# Altium footprint library TPS84250RKGR.PcbLib: 1 footprints
Each footprint in its own frame and in the unit in brackets; x right, y up, seen from the top. Pads: shape width x height; smd on the part's side, far side on the other; paste and mask are expansions set on the pad; w line width, h text height; cw(c..) or ccw(c..) is an arc to the next point about the centre after c.
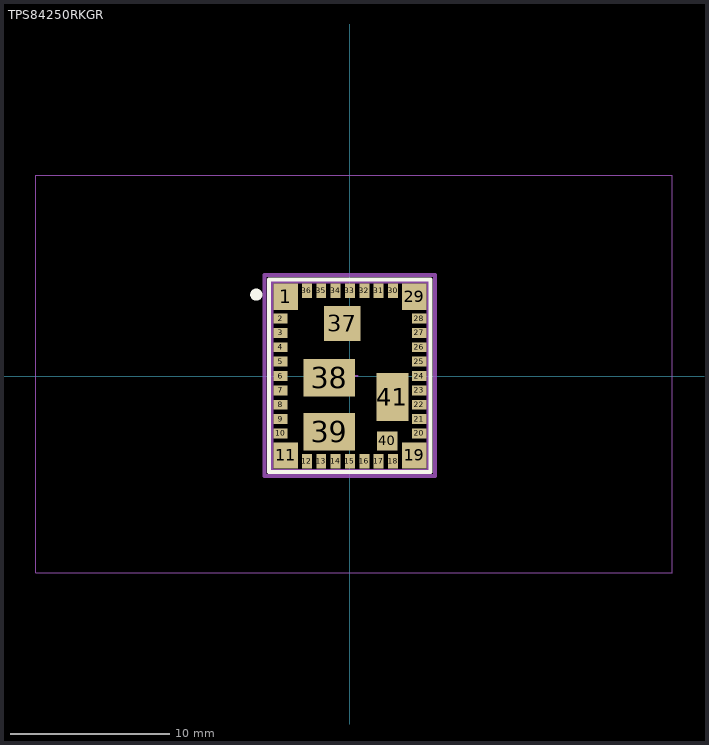
[diagram p0: the footprint, top view; thin cyan lines are the x and y axes]

## TPS84250RKGR [mm]
pads (41):
  rect 1.55x1.65 smd: 1(-4.025,4.975) 11(-4.025,-4.975) 19(4.025,-4.975) 29(4.025,4.975)
  rect 0.9x0.62 smd: 2(-4.35,3.6) 3(-4.35,2.7) 4(-4.35,1.8) 5(-4.35,0.9) 6(-4.35,0) 7(-4.35,-0.9) 8(-4.35,-1.8) 9(-4.35,-2.7) 10(-4.35,-3.6) 20(4.35,-3.6) 21(4.35,-2.7) 22(4.35,-1.8) 23(4.35,-0.9) 24(4.35,0) 25(4.35,0.9) 26(4.35,1.8) 27(4.35,2.7) 28(4.35,3.6)
  rect 0.62x0.9 smd: 12(-2.7,-5.35) 13(-1.8,-5.35) 14(-0.9,-5.35) 15(0,-5.35) 16(0.9,-5.35) 17(1.8,-5.35) 18(2.7,-5.35) 30(2.7,5.35) 31(1.8,5.35) 32(0.9,5.35) 33(0,5.35) 34(-0.9,5.35) 35(-1.8,5.35) 36(-2.7,5.35)
  rect 2.3x2.2 smd: 37(-0.48,3.3)
  rect 3.2x2.35 smd: 38(-1.295,-0.11) 39(-1.295,-3.5)
  rect 1.3x1.2 smd: 40(2.34,-4.07)
  rect 2x3 smd: 41(2.66,-1.325)
Top Overlay:
  lines w0.254: -5.08,-6.02 5.055,-6.02 5.055,6.045 -5.08,6.045 -5.08,-6.02
  lines w0.6: -5.829,5.176 ccw(c-5.867,5.105) -5.814,5.165
Mechanical 1:
  lines w0.254: -4.928,-5.944 -4.928,5.918 4.928,5.918 4.928,-5.944 -4.928,-5.944
Top Designator:
  text ".Designator" at -5.998,-0.374 h1.2
Mechanical 15:
  lines w0.05: -19.685,-12.319 20.193,-12.319 20.193,12.573 -19.685,12.573 -19.685,-12.319
  lines w0.1: -0.5,0 0.5,0 ; 0,-0.5 0,0.5
  lines w0.254: -5.359,-6.274 -5.359,6.325 5.334,6.325 5.334,-6.274 -5.359,-6.274
3D body "TPS84250RKGR.stp": height 2.9, standoff 0, extent -4.5,-5.525 4.5,5.475